# Altium footprint library LoRaPCB.PcbLib: 12 footprints
Each footprint in its own frame and in the unit in brackets; x right, y up, seen from the top. Pads: shape width x height; smd on the part's side, far side on the other; paste and mask are expansions set on the pad; w line width, h text height; cw(c..) or ccw(c..) is an arc to the next point about the centre after c.
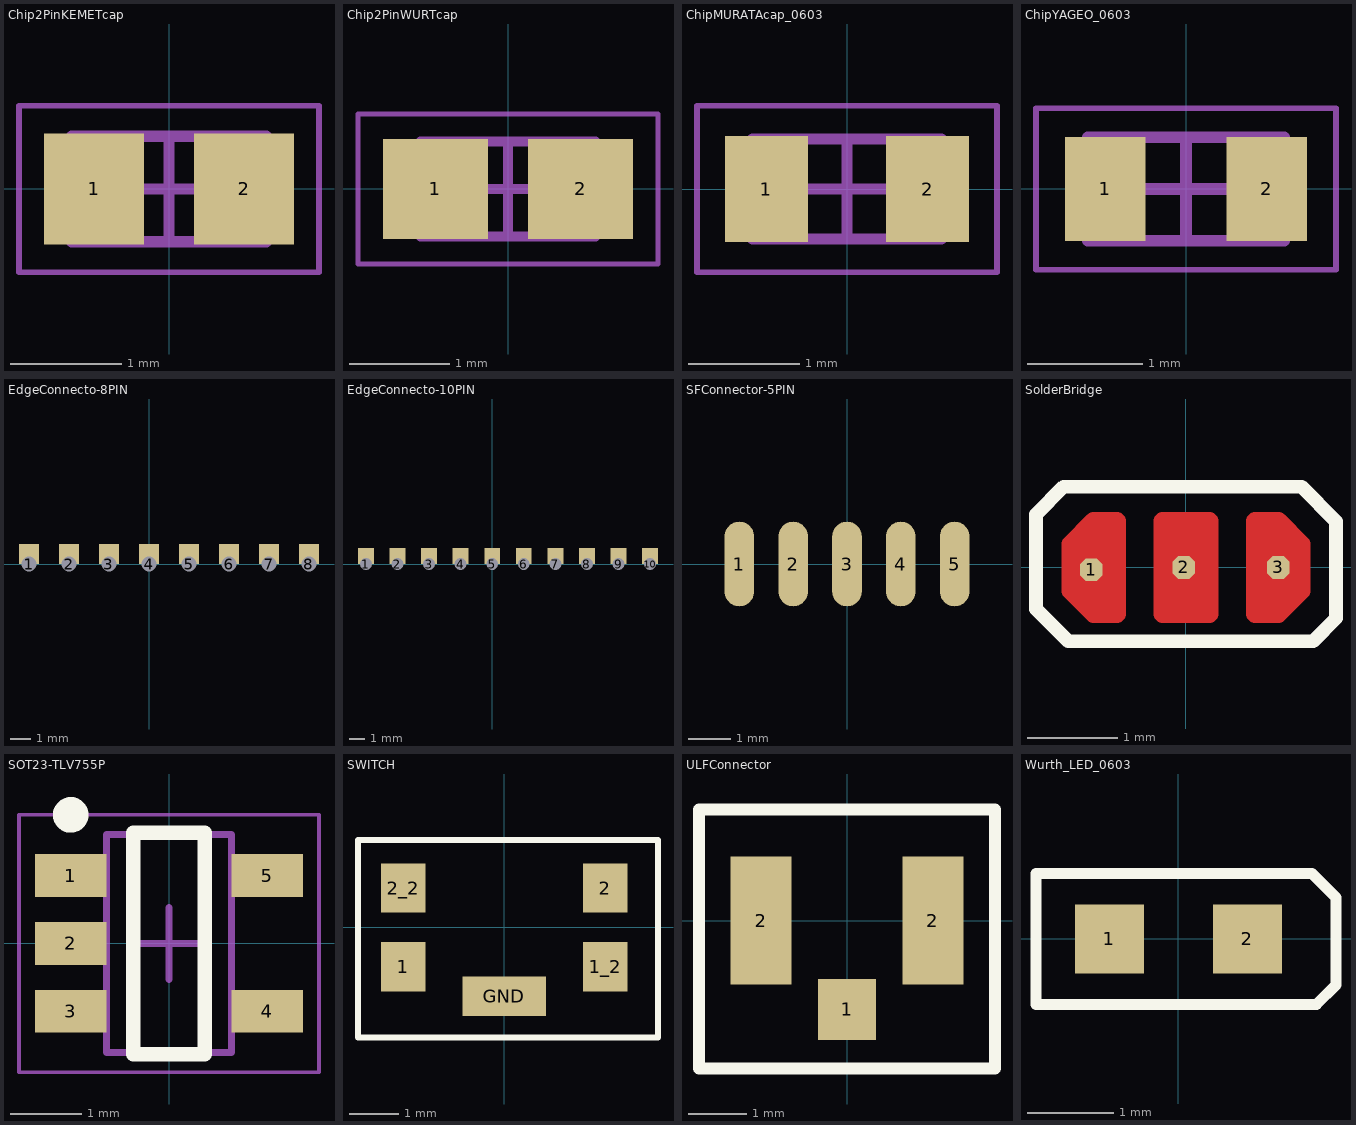
[diagram p0: the footprints below, top view; thin cyan lines are the x and y axes]

## Chip2PinKEMETcap [mm]
height 0.55
pads (2):
  rect 0.9x1 smd: 1(-0.675,0) 2(0.675,0)
Mechanical 13:
  lines w0.1: -0.875,-0.475 -0.875,0.475 0.875,0.475 0.875,-0.475 -0.875,-0.475
Mechanical 15:
  lines w0.05: -1.35,-0.75 -1.35,0.75 1.35,0.75 1.35,-0.75 -1.35,-0.75
  lines w0.1: -0.475,0 0.475,0 ; 0,-0.475 0,0.475
3D body "Chip2PinKEMETcap.step": height 0.55, standoff 0, extent -0.875,-0.475 0.875,0.475

## Chip2PinWURTcap [mm]
height 0.55
pads (2):
  rect 1.05x1 smd: 1(-0.725,0) 2(0.725,0)
Mechanical 13:
  lines w0.1: -0.875,-0.475 -0.875,0.475 0.875,0.475 0.875,-0.475 -0.875,-0.475
Mechanical 15:
  lines w0.05: -1.5,-0.75 -1.5,0.75 1.5,0.75 1.5,-0.75 -1.5,-0.75
  lines w0.1: -0.475,0 0.475,0 ; 0,-0.475 0,0.475
3D body "Chip2PinWURTcap.step": height 0.55, standoff 0, extent -0.875,-0.475 0.875,0.475

## ChipMURATAcap_0603 [mm]
height 0.55
pads (2):
  rect 0.75x0.95 smd: 1(-0.725,0) 2(0.725,0)
Mechanical 13:
  lines w0.1: -0.85,-0.45 -0.85,0.45 0.85,0.45 0.85,-0.45 -0.85,-0.45
Mechanical 15:
  lines w0.05: -1.35,-0.75 -1.35,0.75 1.35,0.75 1.35,-0.75 -1.35,-0.75
  lines w0.1: -0.45,0 0.45,0 ; 0,-0.45 0,0.45
3D body: height 0.55, standoff 0, extent -0.6,-0.45 0.6,0.45
3D body: height 0.55, standoff 0, extent -0.85,-0.45 -0.6,0.45
3D body: height 0.55, standoff 0, extent 0.6,-0.45 0.85,0.45

## ChipYAGEO_0603 [mm]
height 0.55
pads (2):
  rect 0.7x0.9 smd: 1(-0.7,0) 2(0.7,0)
Mechanical 13:
  lines w0.1: -0.85,-0.45 -0.85,0.45 0.85,0.45 0.85,-0.45 -0.85,-0.45
Mechanical 15:
  lines w0.05: -1.3,-0.7 -1.3,0.7 1.3,0.7 1.3,-0.7 -1.3,-0.7
  lines w0.1: -0.45,0 0.45,0 ; 0,-0.45 0,0.45
3D body "ChipYAGEO_0603.step": height 0.55, standoff 0, extent -0.85,-0.45 0.85,0.45

## EdgeConnecto-8PIN [mm]
pads (8):
  rect 1x1 hole 0.75 copper offset 0,0.5: 1(-6,0) 2(-4,0) 3(-2,0) 4(0,0) 5(2,0) 6(4,0) 7(6,0) 8(8,0)

## EdgeConnecto-10PIN [mm]
pads (10):
  rect 1x1 hole 0.75 copper offset 0,0.5: 1(-8,0) 2(-6,0) 3(-4,0) 4(-2,0) 5(0,0) 6(2,0) 7(4,0) 8(6,0) 9(8,0) 10(10,0)

## SFConnector-5PIN [mm]
pads (5):
  oval 0.7x2 smd: 1(-2.54,0) 2(-1.27,0) 3(0,0) 4(1.27,0) 5(2.54,0)

## SolderBridge [mm]
pads (3):
  oct 0.25x0.25 smd: 1(-1.041,-0.025) 2(-0.025,0) 3(1.016,0)
Top Layer:
  region: -1.27,-0.254 -1.27,0.254 -1.016,0.508 -0.762,0.508 -0.762,-0.508 -1.016,-0.508
  region: -0.254,-0.508 -0.254,0.508 0.254,0.508 0.254,-0.508
  region: 0.762,-0.508 1.016,-0.508 1.27,-0.254 1.27,0.254 1.016,0.508 0.762,0.508
  lines w0.203: -1.27,-0.254 -1.016,-0.508 -0.762,-0.508 -0.762,0.508 -1.016,0.508 -1.27,0.254 -1.27,0 -1.27,-0.254 ; -0.254,-0.508 0.254,-0.508 0.254,0.508 -0.254,0.508 -0.254,-0.508 ; 0.762,-0.508 0.762,0.508 1.016,0.508 1.27,0.254 1.27,0 1.27,-0.254 1.016,-0.508 0.762,-0.508
Top Overlay:
  lines w0.152: -1.651,-0.279 -1.651,0.584 -1.346,0.889 1.27,0.889 1.651,0.508 1.651,-0.559 1.397,-0.813 -1.295,-0.813 -1.651,-0.457 -1.651,-0.025

## SOT23-TLV755P [mm]
height 1.45
pads (5):
  rect 1x0.6 smd: 1(-1.375,0.95) 2(-1.375,0) 3(-1.375,-0.95) 4(1.375,-0.95) 5(1.375,0.95)
Top Overlay:
  circle w0.25: c-1.375,1.8 r0.125
  lines w0.2: -0.5,-1.55 0.5,-1.55 0.5,1.55 -0.5,1.55 -0.5,-1.55
Mechanical 13:
  lines w0.1: -0.875,-1.525 -0.875,1.525 0.875,1.525 0.875,-1.525 -0.875,-1.525
Mechanical 15:
  lines w0.05: -2.1,-1.8 -2.1,1.8 2.1,1.8 2.1,-1.8 -2.1,-1.8
  lines w0.1: -0.5,0 0.5,0 ; 0,-0.5 0,0.5
3D body "SOT23-TLV755P.step": height 1.45, standoff 0, extent -1.5,-1.525 1.5,1.525

## SWITCH [mm]
pads (5):
  rect 0.9x1 smd: 1(-2.05,-0.8) 1_2(2.05,-0.8) 2(2.05,0.8) 2_2(-2.05,0.8)
  rect 1.7x0.8 smd: GND(0,-1.4)
Top Overlay:
  lines w0.127: -2.972,-2.235 -2.972,-2.159 -2.972,1.778 -1.448,1.778 1.6,1.778 3.124,1.778 3.124,-2.159 3.124,-2.235 -2.464,-2.235 -2.972,-2.235
3D body "User Library-Pushbutton3x4x2.step": height 2, standoff 0, extent -2.438,-1.434 2.462,1.466

## ULFConnector [mm]
pads (3):
  rect 1x1.05 smd: 1(0,-1.525)
  rect 1.05x2.2 smd: 2(-1.475,0) 2(1.475,0)
Top Overlay:
  lines w0.203: -2.54,-2.54 2.54,-2.54 2.54,1.905 -2.54,1.905 -2.54,-2.54
3D body "User Library-UFL-R-SMD.STEP": height 1.25, standoff 0, extent -1.7,-1.55 1.7,1.55

## Wurth_LED_0603 [mm]
pads (2):
  rect 0.8x0.8 smd: 1(-0.8,0) 2(0.8,0)
Top Overlay:
  lines w0.127: 1.829,0.279 1.829,-0.533 ; 1.829,-0.533 1.6,-0.762 1.346,-0.762 -1.448,-0.762 -1.651,-0.762 -1.651,0.762 -1.448,0.762 1.346,0.762 1.549,0.762 1.829,0.483 1.829,-0.533
3D body "User Library-LED SMD0603.step": height 0.68, standoff 0, extent -0.9,-0.376 0.75,0.349